# Altium footprint library Heatsink.PcbLib: 31 footprints (part 2 of 2)
Each footprint in its own frame and in the unit in brackets; x right, y up, seen from the top. Pads: shape width x height; smd on the part's side, far side on the other; paste and mask are expansions set on the pad; w line width, h text height; cw(c..) or ccw(c..) is an arc to the next point about the centre after c.
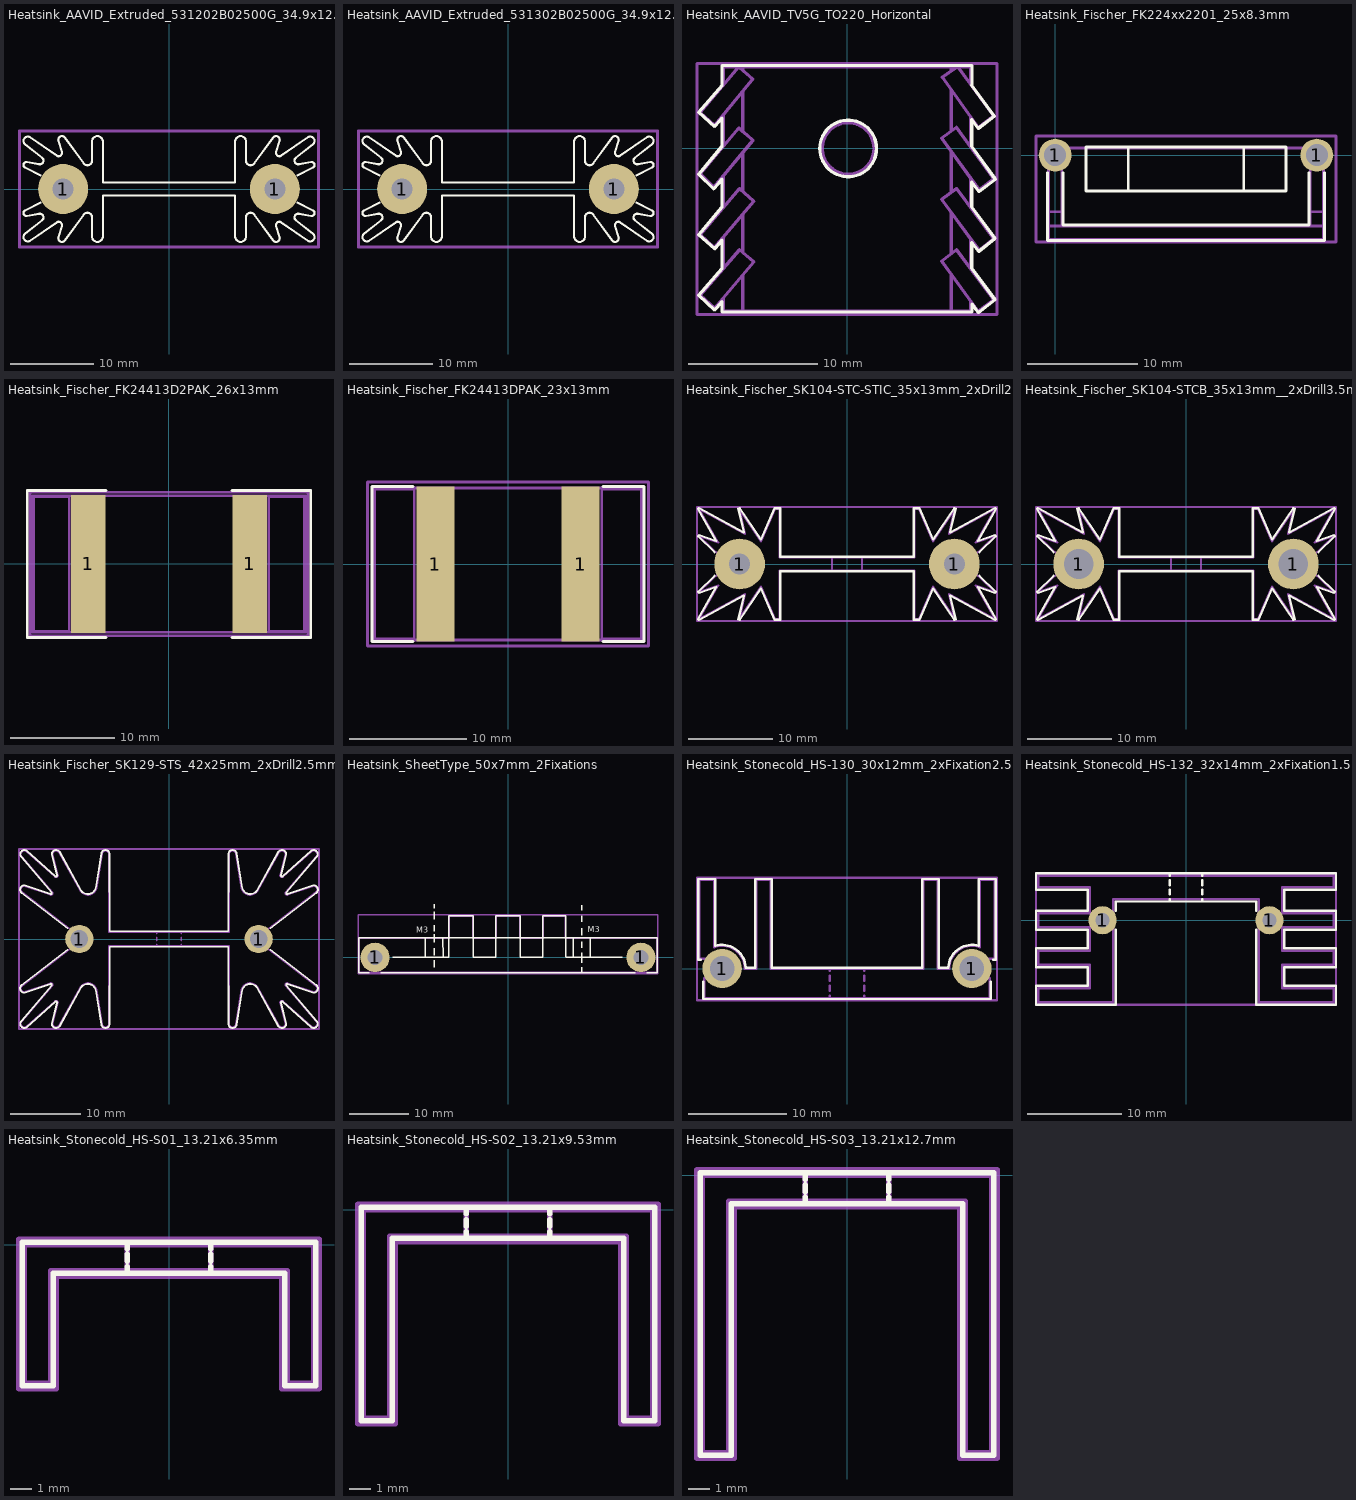
[diagram p1: the footprints below, top view; thin cyan lines are the x and y axes]

## Heatsink_AAVID_Extruded_531202B02500G_34.9x12.7mm_H50.8mm [mm]
pads (2):
  round 6 hole 2.5: 1(-12.7,0) 1(12.7,0)
F.SilkS:
  lines w0.254: -15.4,-1.6 -17.269,-2.565 ccw(c-17.103,-2.881) -17.041,-3.232 -15.573,-2.975 cw(c-15.498,-3.404) -15.22,-3.738 -17.251,-5.347 ccw(c-16.931,-5.768) -16.62,-6.195 -13.494,-4.007 cw(c-13.257,-4.346) -12.861,-4.467 -13.262,-5.755 ccw(c-12.837,-5.901) -12.474,-6.165 -10.227,-3.07 cw(c-9.786,-3.39) -9.24,-3.39 -9.24,-5.7 ccw(c-8.59,-5.7) -7.94,-5.7 -7.94,-0.785 0,-0.785 7.94,-0.785 7.94,-5.7 ccw(c8.59,-5.7) 9.24,-5.7 9.24,-3.39 cw(c9.786,-3.39) 10.227,-3.07 12.474,-6.165 ccw(c12.837,-5.901) 13.262,-5.755 12.861,-4.467 cw(c13.257,-4.346) 13.494,-4.007 16.62,-6.195 ccw(c16.931,-5.768) 17.251,-5.347 15.22,-3.738 cw(c15.498,-3.404) 15.573,-2.975 17.041,-3.232 ccw(c17.103,-2.881) 17.269,-2.565 15.4,-1.6 ; -15.4,1.6 -17.269,2.565 cw(c-17.103,2.881) -17.041,3.232 -15.573,2.975 ccw(c-15.498,3.404) -15.22,3.738 -17.251,5.347 cw(c-16.931,5.768) -16.62,6.195 -13.494,4.007 ccw(c-13.257,4.346) -12.861,4.467 -13.262,5.755 cw(c-12.837,5.901) -12.474,6.165 -10.227,3.07 ccw(c-9.786,3.39) -9.24,3.39 -9.24,5.7 cw(c-8.59,5.7) -7.94,5.7 -7.94,0.785 0,0.785 7.94,0.785 7.94,5.7 cw(c8.59,5.7) 9.24,5.7 9.24,3.39 ccw(c9.786,3.39) 10.227,3.07 12.474,6.165 cw(c12.837,5.901) 13.262,5.755 12.861,4.467 ccw(c13.257,4.346) 13.494,4.007 16.62,6.195 cw(c16.931,5.768) 17.251,5.347 15.22,3.738 ccw(c15.498,3.404) 15.573,2.975 17.041,3.232 cw(c17.103,2.881) 17.269,2.565 15.4,1.6
Top Assembly:
  lines w0.254: -17.9,-6.9 17.9,-6.9 17.9,6.9 -17.9,6.9 -17.9,-6.9
  text "'.Designator'" at -4.047,1.16 h1
Top Courtyard:
  lines w0.254: -18,-7 18,-7 18,7 -18,7 -18,-7
Top Designator:
  text ".Designator" at -7.618,-0.508 h1.52

## Heatsink_AAVID_Extruded_531302B02500G_34.9x12.7mm_H63.5mm [mm]
pads (2):
  round 6 hole 2.5: 1(-12.7,0) 1(12.7,0)
F.SilkS:
  lines w0.254: -15.4,-1.6 -17.269,-2.565 ccw(c-17.103,-2.881) -17.041,-3.232 -15.573,-2.975 cw(c-15.498,-3.404) -15.22,-3.738 -17.251,-5.347 ccw(c-16.931,-5.768) -16.62,-6.195 -13.494,-4.007 cw(c-13.257,-4.346) -12.861,-4.467 -13.262,-5.755 ccw(c-12.837,-5.901) -12.474,-6.165 -10.227,-3.07 cw(c-9.786,-3.39) -9.24,-3.39 -9.24,-5.7 ccw(c-8.59,-5.7) -7.94,-5.7 -7.94,-0.785 0,-0.785 7.94,-0.785 7.94,-5.7 ccw(c8.59,-5.7) 9.24,-5.7 9.24,-3.39 cw(c9.786,-3.39) 10.227,-3.07 12.474,-6.165 ccw(c12.837,-5.901) 13.262,-5.755 12.861,-4.467 cw(c13.257,-4.346) 13.494,-4.007 16.62,-6.195 ccw(c16.931,-5.768) 17.251,-5.347 15.22,-3.738 cw(c15.498,-3.404) 15.573,-2.975 17.041,-3.232 ccw(c17.103,-2.881) 17.269,-2.565 15.4,-1.6 ; -15.4,1.6 -17.269,2.565 cw(c-17.103,2.881) -17.041,3.232 -15.573,2.975 ccw(c-15.498,3.404) -15.22,3.738 -17.251,5.347 cw(c-16.931,5.768) -16.62,6.195 -13.494,4.007 ccw(c-13.257,4.346) -12.861,4.467 -13.262,5.755 cw(c-12.837,5.901) -12.474,6.165 -10.227,3.07 ccw(c-9.786,3.39) -9.24,3.39 -9.24,5.7 cw(c-8.59,5.7) -7.94,5.7 -7.94,0.785 0,0.785 7.94,0.785 7.94,5.7 cw(c8.59,5.7) 9.24,5.7 9.24,3.39 ccw(c9.786,3.39) 10.227,3.07 12.474,6.165 cw(c12.837,5.901) 13.262,5.755 12.861,4.467 ccw(c13.257,4.346) 13.494,4.007 16.62,6.195 cw(c16.931,5.768) 17.251,5.347 15.22,3.738 ccw(c15.498,3.404) 15.573,2.975 17.041,3.232 cw(c17.103,2.881) 17.269,2.565 15.4,1.6
Top Assembly:
  lines w0.254: -17.9,-6.9 17.9,-6.9 17.9,6.9 -17.9,6.9 -17.9,-6.9
  text "'.Designator'" at -4.047,1.16 h1
Top Courtyard:
  lines w0.254: -18,-7 18,-7 18,7 -18,7 -18,-7
Top Designator:
  text ".Designator" at -7.618,-0.508 h1.52

## Heatsink_AAVID_TV5G_TO220_Horizontal [mm]
F.SilkS:
  circle w0.254: c0.09,0 r2.202
  lines w0.254: -9.71,-7.15 -9.71,-9.32 -11.51,-11.4 -10.26,-12.55 -9.71,-11.9 -9.71,-12.7 9.71,-12.7 9.71,-12.1 10.19,-12.75 11.49,-11.75 9.69,-9.3 9.69,-7.3 10.24,-8 11.49,-7 9.69,-4.55 9.69,-2.6 10.24,-3.35 11.54,-2.4 ; -9.71,-7.14 -10.26,-7.8 -11.51,-6.7 -9.71,-4.55 ; -9.71,-4.54 -9.71,-2.39 -10.36,-3.15 -11.51,-2 -9.71,0.18 ; -9.71,0.19 -9.71,2.35 ; -9.71,2.36 -10.26,1.7 -11.51,2.8 -9.7,4.91 ; -9.71,4.94 -9.71,6.45 ; -9.69,6.45 9.69,6.45 ; 9.69,4.9 11.44,2.5 10.19,1.55 9.69,2.25 9.69,0.15 11.49,-2.35 ; 9.71,4.9 9.71,6.45
Top Assembly:
  circle w0.254: c0.09,0 r2.002
  lines w0.254: -10.285,-12.425 -11.4,-11.412 -8.35,-7.862 -7.25,-8.812 -10.26,-12.4 ; -9.6,-11.61 -9.6,-12.65 9.6,-12.65 ; -9.6,-9.3 -9.6,-6.88 ; -9.6,-4.56 -9.6,-2.13 ; -9.6,0.18 -9.6,2.63 ; -9.6,4.95 -9.6,6.35 9.6,6.35 ; -8.4,6.338 -11.4,2.788 -10.285,1.8 -7.4,5.288 -7.3,5.388 -8.35,6.288 ; -8.1,-12.65 -8.1,-9.86 ; -8.1,-8.08 -8.1,-5.13 ; -8.1,-3.33 -8.1,-0.34 ; -8.1,1.35 -8.1,4.44 ; -8.1,6.07 -8.1,6.338 ; 8.1,-12.612 8.1,-9.812 ; 8.1,-8.162 8.1,-5.012 ; 8.1,-3.412 8.1,-0.262 ; 8.1,1.388 8.1,4.538 ; 8.1,6.03 8.1,6.35 ; 8.5,-3.112 7.35,-3.962 10.25,-7.912 11.4,-7.012 8.515,-3.125 ; 8.55,6.33 7.4,5.538 10.2,1.638 11.39,2.525 8.61,6.34 ; 9.6,-12.612 9.6,-11.862 ; 9.6,-9.312 9.6,-7.062 ; 9.6,-4.562 9.6,-2.312 ; 9.6,0.138 9.6,2.438 ; 9.6,4.98 9.6,6.338 ; 11.39,-2.375 10.25,-3.212 7.35,0.788 8.5,1.638 11.4,-2.362 ; -11.4,-6.712 -10.3,-7.712 -7.25,-4.112 -8.35,-3.112 -11.4,-6.712 ; -11.4,-1.962 -8.4,1.588 -7.3,0.638 -10.35,-3.012 -11.4,-1.962 ; 7.35,-8.762 8.5,-7.862 11.4,-11.762 10.2,-12.662 7.35,-8.762
  text "'.Designator'" at -4.047,3.16 h1
Top Courtyard:
  lines w0.254: -11.65,-12.9 11.65,-12.9 11.65,6.6 -11.65,6.6 -11.65,-12.9
Top Designator:
  text ".Designator" at -7.618,-3.658 h1.52

## Heatsink_Fischer_FK224xx2201_25x8.3mm [mm]
pads (2):
  round 3 hole 2: 1(0,0) 1(23.8,0)
F.SilkS:
  lines w0.254: -0.71,-1.6 -0.71,-7.76 24.51,-7.76 24.51,-1.6 ; 0.71,-1.6 0.71,-6.34 23.09,-6.34 23.09,-1.6 ; 6.65,-3.15 6.65,0.65 ; 17.15,-3.15 17.15,0.65 ; 2.79,-3.26 21.01,-3.26 21.01,0.76 2.79,0.76 2.79,-3.26
Top Assembly:
  lines w0.254: 0.6,0.65 0.6,-6.45 23.2,-6.45 23.2,0.65 ; -0.6,-7.65 24.4,-7.65 24.4,0.65 -0.6,0.65 -0.6,-7.65
  text "'.Designator'" at 7.853,-4.34 h1
Top Courtyard:
  lines w0.254: -1.75,-7.9 25.55,-7.9 25.55,1.75 -1.75,1.75 -1.75,-7.9
Top Designator:
  text ".Designator" at 4.282,-3.583 h1.52
Dwgs.User:
  lines w0.254: -0.6,-6.45 0.6,-6.45 0.6,-5.15 -0.6,-5.15 -0.6,-6.45 ; 23.2,-6.45 24.4,-6.45 24.4,-5.15 23.2,-5.15 23.2,-6.45
  text "KEEPOUT" at -0.467,-6.045 h0.15
  text "COPPER" at -0.412,-5.745 h0.15
  text "KEEPOUT" at 23.333,-6.045 h0.15
  text "COPPER" at 23.388,-5.745 h0.15

## Heatsink_Fischer_FK24413D2PAK_26x13mm [mm]
pads (2):
  rect 3.25x13.2 smd: 1(-7.7,0) 1(7.7,0)
F.SilkS:
  lines w0.254: -6,-7 -13.5,-7 -13.5,7 -6,7 ; 6,-7 13.5,-7 13.5,7 6,7
Top Assembly:
  lines w0.254: -13,-6.5 13,-6.5 13,6.5 -13,6.5 -13,-6.5
  text "'.Designator'" at -4.047,-0.84 h1
Top Courtyard:
  lines w0.254: -13.25,-6.85 13.25,-6.85 13.25,6.85 -13.25,6.85 -13.25,-6.85
Top Designator:
  text ".Designator" at -7.618,-0.508 h1.52
Cmts.User:
  lines w0.254: -12.9,-6.4 -9.5,-6.4 -9.5,6.4 -12.9,6.4 -12.9,-6.4 ; 9.5,-6.4 12.9,-6.4 12.9,6.4 9.5,6.4 9.5,-6.4
  text "H10mm" at 11.65,-2.638 h1
  text "H10mm" at -10.35,-2.638 h1

## Heatsink_Fischer_FK24413DPAK_23x13mm [mm]
pads (2):
  rect 3.25x13.2 smd: 1(-6.2,0) 1(6.2,0)
F.SilkS:
  lines w0.254: -8.1,-6.62 -11.62,-6.62 -11.62,6.62 -8.1,6.62 ; 8.1,-6.62 11.62,-6.62 11.62,6.62 8.1,6.62
Top Assembly:
  lines w0.254: -11.5,-6.5 11.5,-6.5 11.5,6.5 -11.5,6.5 -11.5,-6.5
  text "'.Designator'" at -4.047,-0.84 h1
Top Courtyard:
  lines w0.254: -12,-7 12,-7 12,7 -12,7 -12,-7
Top Designator:
  text ".Designator" at -7.618,-0.508 h1.52
Cmts.User:
  lines w0.254: -11.4,-6.4 -8,-6.4 -8,6.4 -11.4,6.4 -11.4,-6.4 ; 8,-6.4 11.4,-6.4 11.4,6.4 8,6.4 8,-6.4
  text "H10mm" at -8.85,-2.638 h1
  text "H10mm" at 10.15,-2.638 h1

## Heatsink_Fischer_SK104-STC-STIC_35x13mm_2xDrill2.5mm [mm]
pads (2):
  round 6 hole 2.5: 1(-12.7,0) 1(12.7,0)
F.SilkS:
  lines w0.254: -15.66,-1.38 -17.62,-3.27 -17.53,-3.42 -15.48,-2.74 -17.63,-6.51 -17.51,-6.63 -12.21,-3.75 -12.87,-6.55 -12.69,-6.61 -10.19,-2.89 ; -15.66,1.38 -17.62,3.27 -17.53,3.42 -15.48,2.74 -17.63,6.51 -17.51,6.63 -12.21,3.75 -12.87,6.55 -12.69,6.61 -10.19,2.89 ; -10.18,-2.89 -8.57,-6.6 -7.9,-6.6 -7.9,-0.85 0,-0.85 7.9,-0.85 7.9,-6.6 8.57,-6.6 10.18,-2.89 ; -10.18,2.89 -8.57,6.6 -7.9,6.6 -7.9,0.85 0,0.85 7.9,0.85 7.9,6.6 8.57,6.6 10.18,2.89 ; 10.19,-2.89 12.69,-6.61 12.87,-6.55 12.21,-3.75 17.51,-6.63 17.63,-6.51 15.48,-2.74 17.53,-3.42 17.62,-3.27 15.66,-1.38 ; 10.19,2.89 12.69,6.61 12.87,6.55 12.21,3.75 17.51,6.63 17.63,6.51 15.48,2.74 17.53,3.42 17.62,3.27 15.66,1.38
Top Assembly:
  lines w0.254: -15,0.9 -17.5,3.3 -15.24,2.54 -17.5,6.5 -12.065,3.556 -12.75,6.5 -10.16,2.667 -8.5,6.5 -8,6.5 -8.001,0.762 0,0.762 8.001,0.762 8,6.5 8.5,6.5 10.16,2.667 12.75,6.5 12.065,3.556 17.5,6.5 15.24,2.54 17.5,3.3 15,0.9 ccw(c12.7,0) 14.993,-0.918 ; -14.993,0.918 cw(c-12.7,0) -15,-0.9 -17.5,-3.3 -15.24,-2.54 -17.5,-6.5 -12.065,-3.556 -12.75,-6.5 -10.16,-2.667 -8.5,-6.5 -8,-6.5 -8.001,-0.762 0,-0.762 8.001,-0.762 8,-6.5 8.5,-6.5 10.16,-2.667 12.75,-6.5 12.065,-3.556 17.5,-6.5 15.24,-2.54 17.5,-3.3 15,-0.9 ; -1.778,-0.762 -1.778,0.762 ; 1.778,-0.762 1.778,0.762
  text "'.Designator'" at -4.047,-0.84 h1
Top Courtyard:
  lines w0.254: -17.75,-6.75 17.75,-6.75 17.75,6.75 -17.75,6.75 -17.75,-6.75
Top Designator:
  text ".Designator" at -7.618,-0.508 h1.52

## Heatsink_Fischer_SK104-STCB_35x13mm__2xDrill3.5mm_ScrewM3 [mm]
pads (2):
  round 6 hole 3.5: 1(-12.7,0) 1(12.7,0)
F.SilkS:
  lines w0.254: -15.66,-1.38 -17.62,-3.27 -17.53,-3.42 -15.48,-2.74 -17.63,-6.51 -17.51,-6.63 -12.21,-3.75 -12.87,-6.55 -12.69,-6.61 -10.19,-2.89 ; -15.66,1.38 -17.62,3.27 -17.53,3.42 -15.48,2.74 -17.63,6.51 -17.51,6.63 -12.21,3.75 -12.87,6.55 -12.69,6.61 -10.19,2.89 ; -10.18,-2.89 -8.57,-6.6 -7.9,-6.6 -7.9,-0.85 0,-0.85 7.9,-0.85 7.9,-6.6 8.57,-6.6 10.18,-2.89 ; -10.18,2.89 -8.57,6.6 -7.9,6.6 -7.9,0.85 0,0.85 7.9,0.85 7.9,6.6 8.57,6.6 10.18,2.89 ; 10.19,-2.89 12.69,-6.61 12.87,-6.55 12.21,-3.75 17.51,-6.63 17.63,-6.51 15.48,-2.74 17.53,-3.42 17.62,-3.27 15.66,-1.38 ; 10.19,2.89 12.69,6.61 12.87,6.55 12.21,3.75 17.51,6.63 17.63,6.51 15.48,2.74 17.53,3.42 17.62,3.27 15.66,1.38
Top Assembly:
  lines w0.254: -15,0.9 -17.5,3.3 -15.24,2.54 -17.5,6.5 -12.065,3.556 -12.75,6.5 -10.16,2.667 -8.5,6.5 -8,6.5 -8.001,0.762 0,0.762 8.001,0.762 8,6.5 8.5,6.5 10.16,2.667 12.75,6.5 12.065,3.556 17.5,6.5 15.24,2.54 17.5,3.3 15,0.9 ccw(c12.7,0) 14.993,-0.918 ; -14.993,0.918 cw(c-12.7,0) -15,-0.9 -17.5,-3.3 -15.24,-2.54 -17.5,-6.5 -12.065,-3.556 -12.75,-6.5 -10.16,-2.667 -8.5,-6.5 -8,-6.5 -8.001,-0.762 0,-0.762 8.001,-0.762 8,-6.5 8.5,-6.5 10.16,-2.667 12.75,-6.5 12.065,-3.556 17.5,-6.5 15.24,-2.54 17.5,-3.3 15,-0.9 ; -1.778,-0.762 -1.778,0.762 ; 1.778,-0.762 1.778,0.762
  text "'.Designator'" at -4.047,-0.84 h1
Top Courtyard:
  lines w0.254: -17.75,-6.75 17.75,-6.75 17.75,6.75 -17.75,6.75 -17.75,-6.75
Top Designator:
  text ".Designator" at -7.618,-0.508 h1.52

## Heatsink_Fischer_SK129-STS_42x25mm_2xDrill2.5mm [mm]
pads (2):
  round 4 hole 2.5: 1(-12.7,0) 1(12.7,0)
F.SilkS:
  lines w0.254: -20.89,-11.57 -16.64,-6.59 ; -20.89,-6.53 -14.38,-1.52 ; -20.89,6.53 -14.38,1.52 ; -20.89,11.57 -16.64,6.59 ; -20.883,-11.57 ccw(c-20.49,-12.01) -20.12,-12.47 ; -20.884,11.57 cw(c-20.49,12.01) -20.12,12.47 ; -20.882,6.529 cw(c-20.5,7) -20.36,7.59 ; -20.881,-6.528 ccw(c-20.5,-7) -20.36,-7.59 ; -20.37,-7.59 -16.81,-6.37 cw(c-16.75,-6.5) -16.641,-6.593 ; -20.37,7.59 -16.81,6.37 ccw(c-16.75,6.5) -16.641,6.593 ; -20.14,-12.49 -16.11,-8.9 ; -20.14,12.49 -16.11,8.9 ; -16.61,-12.04 -15.86,-9.05 ; -16.61,12.04 -15.86,9.05 ; -16.607,-12.03 ccw(c-16,-12) -15.51,-12.36 ; -16.607,12.031 cw(c-16,12) -15.51,12.36 ; -16.11,-8.89 cw(c-16,-9) -15.863,-9.073 ; -16.11,8.89 ccw(c-16,9) -15.863,9.073 ; -15.52,-12.37 -12.43,-6.8 ; -15.52,12.37 -12.43,6.8 ; -12.43,-6.81 cw(c-11.51,-7.53) -10.378,-7.239 ; -12.43,6.81 ccw(c-11.51,7.53) -10.379,7.238 ; -10.39,-7.2 -9.58,-12.16 ; -10.39,7.2 -9.58,12.16 ; -9.578,-12.138 ccw(c-9,-12.02) -8.41,-12.04 ; -9.578,12.138 cw(c-9,12.02) -8.41,12.04 ; -8.41,-12.07 -8.4,-1.11 0,-1.11 8.4,-1.11 8.41,-12.07 ; -8.41,12.07 -8.4,1.11 0,1.11 8.4,1.11 8.41,12.07 ; 8.41,-12.04 ccw(c9,-12.02) 9.578,-12.138 ; 8.41,12.04 cw(c9,12.02) 9.578,12.138 ; 9.58,-12.16 10.39,-7.2 ; 9.58,12.16 10.39,7.2 ; 10.379,-7.238 cw(c11.51,-7.53) 12.43,-6.81 ; 10.378,7.239 ccw(c11.51,7.53) 12.43,6.81 ; 12.43,-6.8 15.52,-12.37 ; 12.43,6.8 15.52,12.37 ; 14.38,-1.52 20.89,-6.53 ; 14.38,1.52 20.89,6.53 ; 15.51,-12.36 ccw(c16,-12) 16.607,-12.031 ; 15.51,12.36 cw(c16,12) 16.607,12.03 ; 15.86,-9.05 16.61,-12.04 ; 15.86,9.05 16.61,12.04 ; 15.863,-9.073 cw(c16,-9) 16.11,-8.89 ; 15.863,9.073 ccw(c16,9) 16.11,8.89 ; 16.11,-8.9 20.14,-12.49 ; 16.11,8.9 20.14,12.49 ; 16.64,-6.59 20.89,-11.57 ; 16.64,6.59 20.89,11.57 ; 16.641,-6.593 cw(c16.75,-6.5) 16.81,-6.37 20.37,-7.59 ; 16.641,6.593 ccw(c16.75,6.5) 16.81,6.37 20.37,7.59 ; 20.12,-12.47 ccw(c20.49,-12.01) 20.884,-11.57 ; 20.12,12.47 cw(c20.49,12.01) 20.883,11.57 ; 20.36,-7.59 ccw(c20.5,-7) 20.882,-6.529 ; 20.36,7.59 cw(c20.5,7) 20.881,6.528
Top Assembly:
  lines w0.254: -21,-7.05 ccw(c-20.5,-7) -20.45,-7.5 -16.8,-6.25 cw(c-16.75,-6.5) -16.5,-6.45 ; -21,7.05 cw(c-20.5,7) -20.45,7.5 -16.8,6.25 ccw(c-16.75,6.5) -16.5,6.45 ; -20.9,-7.3 cw(c-20.5,-7) -20.8,-6.6 -13.54,-1.01 ccw(c-12.7,0) -13.54,1.01 -20.8,6.6 cw(c-20.5,7) -20.9,7.3 ; -16.6,-6.7 ccw(c-16.75,-6.5) -16.55,-6.35 ; -16.6,6.7 cw(c-16.75,6.5) -16.55,6.35 ; -16.55,-6.65 -20.8,-11.6 ccw(c-20.5,-12) -20.9,-12.3 ccw(c-20.5,-12) -20.2,-12.4 -16.15,-8.8 cw(c-16,-9) -15.8,-8.85 ; -16.55,6.65 -20.8,11.6 cw(c-20.5,12) -20.9,12.3 cw(c-20.5,12) -20.2,12.4 -16.15,8.8 ccw(c-16,9) -15.8,8.85 ; -16.3,-12.4 ccw(c-16,-12) -15.6,-12.3 -12.5,-6.75 cw(c-11.5,-7.5) -10.75,-6.5 ; -16.3,12.4 cw(c-16,12) -15.6,12.3 -12.5,6.75 ccw(c-11.5,7.5) -10.75,6.5 ; -16,-12.5 cw(c-16,-12) -16.5,-12 -15.75,-9.05 ccw(c-16,-9) -15.95,-8.75 ; -16,12.5 ccw(c-16,12) -16.5,12 -15.75,9.05 cw(c-16,9) -15.95,8.75 ; -11.5,-6.25 cw(c-11.5,-7.5) -10.284,-7.209 ; -11.5,6.25 ccw(c-11.5,7.5) -10.285,7.208 ; -10.29,-7.18 -9.49,-12.09 ; -10.29,7.18 -9.49,12.09 ; -9.493,-12.081 ccw(c-9,-12) -9,-12.5 ccw(c-9,-12) -8.5,-12 -8.5,-1 0,-1 8.5,-1 8.5,-12 ccw(c9,-12) 9,-12.5 ccw(c9,-12) 9.493,-12.081 ; -9.493,12.081 cw(c-9,12) -9,12.5 cw(c-9,12) -8.5,12 -8.5,1 0,1 8.5,1 8.5,12 cw(c9,12) 9,12.5 cw(c9,12) 9.493,12.081 ; -1.75,-1 -1.75,-0.75 ; -1.75,-0.25 -1.75,0.25 ; -1.75,0.75 -1.75,1 ; 1.75,-1 1.75,-0.75 ; 1.75,-0.25 1.75,0.25 ; 1.75,0.75 1.75,1 ; 9.49,-12.09 10.29,-7.18 ; 9.49,12.09 10.29,7.18 ; 10.285,-7.208 cw(c11.5,-7.5) 11.5,-6.25 ; 10.284,7.209 ccw(c11.5,7.5) 11.5,6.25 ; 10.75,-6.5 cw(c11.5,-7.5) 12.5,-6.75 15.6,-12.3 ccw(c16,-12) 16.3,-12.4 ; 10.75,6.5 ccw(c11.5,7.5) 12.5,6.75 15.6,12.3 cw(c16,12) 16.3,12.4 ; 15.8,-8.85 cw(c16,-9) 16.15,-8.8 20.2,-12.4 ccw(c20.5,-12) 20.9,-12.3 ccw(c20.5,-12) 20.8,-11.6 16.55,-6.65 ; 15.8,8.85 ccw(c16,9) 16.15,8.8 20.2,12.4 cw(c20.5,12) 20.9,12.3 cw(c20.5,12) 20.8,11.6 16.55,6.65 ; 15.95,-8.75 ccw(c16,-9) 15.75,-9.05 16.5,-12 cw(c16,-12) 16,-12.5 ; 15.95,8.75 cw(c16,9) 15.75,9.05 16.5,12 ccw(c16,12) 16,12.5 ; 16.5,-6.45 cw(c16.75,-6.5) 16.8,-6.25 20.45,-7.5 ccw(c20.5,-7) 21,-7.05 ; 16.5,6.45 ccw(c16.75,6.5) 16.8,6.25 20.45,7.5 cw(c20.5,7) 21,7.05 ; 16.55,-6.35 ccw(c16.75,-6.5) 16.6,-6.7 ; 16.55,6.35 cw(c16.75,6.5) 16.6,6.7 ; 20.9,-7.3 ccw(c20.5,-7) 20.8,-6.6 13.54,-1.01 cw(c12.7,0) 13.54,1.01 20.8,6.6 ccw(c20.5,7) 20.9,7.3
  text "'.Designator'" at -4.047,-0.84 h1
Top Courtyard:
  lines w0.254: -21.25,-12.75 21.25,-12.75 21.25,12.75 -21.25,12.75 -21.25,-12.75
Top Designator:
  text ".Designator" at -7.618,-0.508 h1.52

## Heatsink_SheetType_50x7mm_2Fixations [mil]
pads (2):
  round 196.9 hole 98.4: 1(-890,0) 1(890,0)
F.SilkS:
  lines w10: -927.17,-102.36 -1000,-102.36 -1000,131.89 1000,131.89 1000,-102.36 927.17,-102.36 ; -852.36,-102.36 850.39,-102.36 ; -770,0 -395,0 ; -555.12,131.89 -555,0 ; -495,-65 -495,-20 ; -495,15 -495,60 ; -495,100 -495,155 ; -495,175 -495,215 ; -495,255 -495,305 ; -495,330 -495,355 ; -435.04,131.89 -435,0 ; -397.64,0 -397.64,279.53 -232.28,279.53 -232.28,0 -82.68,0 -82.68,279.53 82.68,279.53 82.68,0 232.28,0 232.28,279.53 387.8,279.53 387.8,0 ; 390,0 550,0 765,0 ; 435.04,0 435.04,131.89 ; 495,-105 495,-65 ; 495,-35 495,30 ; 495,65 495,105 ; 495,150 495,195 ; 495,240 495,280 ; 495,315 495,350 ; 549.21,0 549.21,131.89
  text "M3" at 535.36,169.41 h39.37
  text "M3" at -614.64,164.41 h39.37
Top Assembly:
  lines w10: -994.09,-98.43 994.09,-98.43 994.09,127.95 383.86,127.95 383.86,275.59 236.22,275.59 236.22,127.95 78.74,127.95 78.74,265.75 78.74,275.59 -78.74,275.59 -78.74,127.95 -236.22,127.95 -236.22,275.59 -393.7,275.59 -393.7,127.95 -994.09,127.95 -994.09,-98.43
  text "'.Designator'" at -159.32,-33.08 h39.37
Top Courtyard:
  lines w10: -1003.94,-108.27 1003.94,-108.27 1003.94,285.43 -1003.94,285.43 -1003.94,-108.27
Top Designator:
  text ".Designator" at -299.9,103.37 h60

## Heatsink_Stonecold_HS-130_30x12mm_2xFixation2.5mm [mm]
pads (2):
  round 4 hole 2.5: 1(-12.7,0) 1(12.7,0)
F.SilkS:
  lines w0.254: -14.85,0.9 -15.1,0.9 -15.1,9.1 -13.4,9.1 -13.4,2.3 cw(c-12.711,-0.013) -10.3,0.1 -9.35,0.1 -9.35,9.1 -7.65,9.1 -7.65,0.1 7.65,0.1 7.65,9.1 9.35,9.1 9.35,0.1 10.3,0.1 cw(c12.711,-0.013) 13.4,2.3 13.4,9.1 15.1,9.1 15.1,0.9 14.85,0.9 ; -14.6,-1.35 -14.6,-3.1 14.6,-3.1 14.6,-1.35
Top Assembly:
  lines w0.254: -13.54,-1.01 ccw(c-12.7,0) -13.54,1.01 ; -13.54,1 -15,1 -15,9 -13.5,9 -13.5,2.17 cw(c-12.701,0.002) -10.39,0 -9.25,0 -9.25,9 -7.75,9 -7.75,0 0,0 7.75,0 7.75,9 9.25,9 9.25,0 10.39,0 cw(c12.701,0.002) 13.5,2.17 13.5,9 15,9 15,1 13.54,1 ; -13.53,1.008 cw(c-12.7,0) -13.54,-1 -14.5,-1 -14.5,-3 0,-3 14.5,-3 14.5,-1 13.54,-1 cw(c12.7,0) 13.53,1.008 ; -1.75,-3 -1.75,-2.75 ; -1.75,-2.25 -1.75,-1.75 ; -1.75,-1.25 -1.75,-0.75 ; -1.75,-0.25 -1.75,0 ; 1.75,-3 1.75,-2.75 ; 1.75,-2.25 1.75,-1.75 ; 1.75,-1.25 1.75,-0.75 ; 1.75,-0.25 1.75,0
  text "'.Designator'" at -4.047,-2.34 h1
Top Courtyard:
  lines w0.254: -15.25,-3.25 15.25,-3.25 15.25,9.25 -15.25,9.25 -15.25,-3.25
Top Designator:
  text ".Designator" at -7.618,2.492 h1.52

## Heatsink_Stonecold_HS-132_32x14mm_2xFixation1.5mm [mm]
pads (2):
  round 3 hole 1.5: 1(-8.9,0) 1(8.9,0)
F.SilkS:
  lines w0.254: -7.5,-1 -7.5,-9 -16,-9 -16,-7 -10.5,-7 -10.5,-5 -16,-5 -16,-3 -10.5,-3 -10.5,-1 -16,-1 -16,1 -10.5,1 -10.5,3.25 -16,3.25 -16,5 16,5 16,3.25 10.5,3.25 10.5,1 16,1 16,-1 10.5,-1 10.5,-3 16,-3 16,-5 10.5,-5 10.5,-7 16,-7 16,-9 7.5,-9 7.5,-1 ; -7.5,1 -7.5,2 7.5,2 7.5,1 ; -1.75,2 -1.75,2.25 ; -1.75,2.75 -1.75,3.25 ; -1.75,3.75 -1.75,4.25 ; -1.75,4.75 -1.75,5 ; 1.75,2 1.75,2.25 ; 1.75,2.75 1.75,3.25 ; 1.75,3.75 1.75,4.25 ; 1.75,4.75 1.75,5
Top Assembly:
  lines w0.254: -15.75,-8.75 -7.75,-8.75 -7.75,2.25 7.75,2.25 7.75,-8.75 15.75,-8.75 15.75,-7.25 10.25,-7.25 10.25,-4.75 15.75,-4.75 15.75,-3.25 10.25,-3.25 10.25,-0.75 15.75,-0.75 15.75,0.75 10.25,0.75 10.25,3.5 15.75,3.5 15.75,4.75 -15.75,4.75 -15.75,3.5 -10.25,3.5 -10.25,0.75 -15.75,0.75 -15.75,-0.75 -10.25,-0.75 -10.25,-3.25 -15.75,-3.25 -15.75,-4.75 -10.25,-4.75 -10.25,-7.25 -15.75,-7.25 -15.75,-8.75
  text "'.Designator'" at -4.047,2.66 h1
Top Courtyard:
  lines w0.254: -16,-9 16,-9 16,5 -16,5 -16,-9
Top Designator:
  text ".Designator" at -7.618,-2.508 h1.52

## Heatsink_Stonecold_HS-S01_13.21x6.35mm [mm]
F.SilkS:
  lines w0.254: -1.9,-1.31 -1.9,-1.01 ; -1.9,-0.75 -1.9,-0.45 ; -1.9,-0.19 -1.9,0.11 ; 1.9,-1.31 1.9,-1.01 ; 1.9,-0.75 1.9,-0.45 ; 1.9,-0.19 1.9,0.11 ; -6.72,-6.46 -5.29,-6.46 -5.29,-1.31 5.29,-1.31 5.29,-6.46 6.72,-6.46 6.72,0.11 -6.72,0.11 -6.72,-6.46
Top Assembly:
  lines w0.254: -1.9,-1.2 -1.9,0 ; 1.9,-1.2 1.9,0 ; -6.61,-6.35 -5.4,-6.35 -5.4,-1.2 5.4,-1.2 5.4,-6.35 6.61,-6.35 6.61,0 -6.61,0 -6.61,-6.35
  text "'.Designator'" at -4.047,-1.49 h1
Top Courtyard:
  lines w0.254: -6.86,-6.6 -5.15,-6.6 -5.15,-1.45 5.15,-1.45 5.15,-6.6 6.86,-6.6 6.86,0.25 -6.86,0.25 -6.86,-6.6
Top Designator:
  text ".Designator" at -7.618,-3.683 h1.52

## Heatsink_Stonecold_HS-S02_13.21x9.53mm [mm]
F.SilkS:
  lines w0.254: -1.9,-1.31 -1.9,-1.01 ; -1.9,-0.75 -1.9,-0.45 ; -1.9,-0.19 -1.9,0.11 ; 1.9,-1.31 1.9,-1.01 ; 1.9,-0.75 1.9,-0.45 ; 1.9,-0.19 1.9,0.11 ; -6.72,-9.64 -5.29,-9.64 -5.29,-1.31 5.29,-1.31 5.29,-9.64 6.72,-9.64 6.72,0.11 -6.72,0.11 -6.72,-9.64
Top Assembly:
  lines w0.254: -1.9,-1.2 -1.9,0 ; 1.9,-1.2 1.9,0 ; -6.61,-9.53 -5.4,-9.53 -5.4,-1.2 5.4,-1.2 5.4,-9.53 6.61,-9.53 6.61,0 -6.61,0 -6.61,-9.53
  text "'.Designator'" at -4.047,-1.49 h1
Top Courtyard:
  lines w0.254: -6.86,-9.78 -5.15,-9.78 -5.15,-1.45 5.15,-1.45 5.15,-9.78 6.86,-9.78 6.86,0.25 -6.86,0.25 -6.86,-9.78
Top Designator:
  text ".Designator" at -7.618,-5.273 h1.52

## Heatsink_Stonecold_HS-S03_13.21x12.7mm [mm]
F.SilkS:
  lines w0.254: -1.9,-1.31 -1.9,-1.01 ; -1.9,-0.75 -1.9,-0.45 ; -1.9,-0.19 -1.9,0.11 ; 1.9,-1.31 1.9,-1.01 ; 1.9,-0.75 1.9,-0.45 ; 1.9,-0.19 1.9,0.11 ; -6.72,-12.81 -5.29,-12.81 -5.29,-1.31 5.29,-1.31 5.29,-12.81 6.72,-12.81 6.72,0.11 -6.72,0.11 -6.72,-12.81
Top Assembly:
  lines w0.254: -1.9,-1.2 -1.9,0 ; 1.9,-1.2 1.9,0 ; -6.61,-12.7 -5.4,-12.7 -5.4,-1.2 5.4,-1.2 5.4,-12.7 6.61,-12.7 6.61,0 -6.61,0 -6.61,-12.7
  text "'.Designator'" at -4.047,-1.49 h1
Top Courtyard:
  lines w0.254: -6.86,-12.95 -5.15,-12.95 -5.15,-1.45 5.15,-1.45 5.15,-12.95 6.86,-12.95 6.86,0.25 -6.86,0.25 -6.86,-12.95
Top Designator:
  text ".Designator" at -7.618,-6.858 h1.52